# Altium footprint library Реле.PcbLib: 6 footprints
Each footprint in its own frame and in the unit in brackets; x right, y up, seen from the top. Pads: shape width x height; smd on the part's side, far side on the other; paste and mask are expansions set on the pad; w line width, h text height; cw(c..) or ccw(c..) is an arc to the next point about the centre after c.
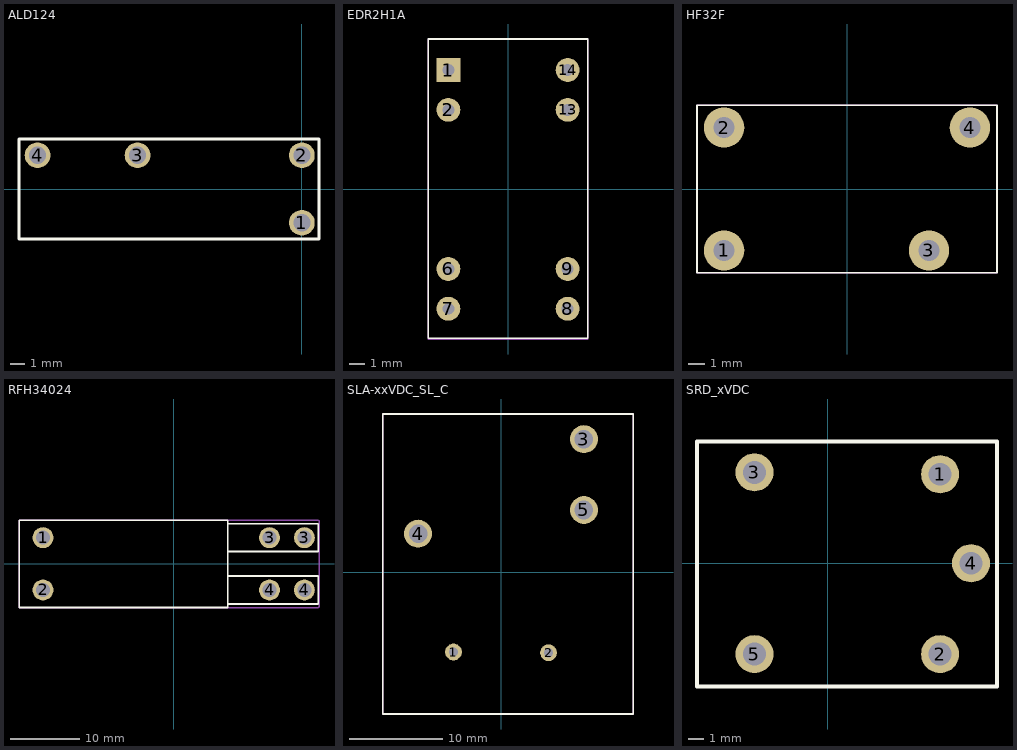
[diagram p0: the footprints below, top view; thin cyan lines are the x and y axes]

## ALD124 [mm]
pads (4):
  round 1.8 hole 1.2: 1(0,-2.36) 2(0,2.36) 3(-11.5,2.36) 4(-18.5,2.36)
Top Overlay:
  lines w0.2: -19.8,-3.5 -19.8,3.5 1.2,3.5 1.2,-3.5 -19.8,-3.5

## EDR2H1A [mil]
pads (8):
  rect 60x60 hole 30: 1(-150,300)
  round 60 hole 30: 2(-150,200) 6(-150,-200) 7(-150,-300) 8(150,-300) 9(150,-200) 13(150,200) 14(150,300)
Top Overlay:
  lines w3.94: -200,-374.02 200,-374.02 200,377.95 -200,377.95 -200,-374.02
TopAssy:
  lines w3.94: -200,-376.01 -200,377.95 200,377.95 200,-376.01 -200,-376.01
  text ".Designator" at -100,-50 h39.37
3D body "ERD2H.STEP": height 177.56, standoff -97.24, extent -157.48,-376.01 157.49,376.01

## HF32F [mm]
pads (4):
  round 2.5 hole 1.3: 1(-7.62,-3.81) 2(-7.62,3.81) 3(5.08,-3.81) 4(7.62,3.81)
Top Overlay:
  lines w0.1: -9.3,-5.2 -9.3,5.2 9.3,5.2 9.3,-5.2 -9.3,-5.2
TopAssy:
  lines w0.1: -9.3,-5.2 9.3,-5.2 9.3,5.2 -9.3,5.2 -9.3,-5.2
  text ".Designator" at -2.9,-0.4 h1.52
3D body "HF32F-G.STEP": height 16, standoff -3, extent -9.197,-5.109 9.203,5.091

## RFH34024 [mm]
pads (6):
  round 3 hole 2: 1(-18.75,3.75) 2(-18.75,-3.75) 3(13.75,3.75) 3(18.75,3.75) 4(13.75,-3.75) 4(18.75,-3.75)
Top Overlay:
  lines w0.254: 7.75,-5.75 20.75,-5.75 20.75,-1.75 7.85,-1.75 ; 7.75,1.75 20.75,1.75 20.75,5.75 7.75,5.75 ; -22.15,-6.25 -22.15,6.25 7.75,6.25 7.75,-6.25 -22.15,-6.25
TopAssy:
  lines w0.2: -22.2,-6.3 20.7,-6.3 20.85,-6.15 20.85,6.15 20.75,6.25 -22.2,6.25 -22.2,-6.3
  text ".Designator" at -9.35,-1.35 h1.52
3D body "Реле-HF115F-Q.stp": height 15.7, standoff -4.3, extent -22.1,-6.4 18.9,6.3

## SLA-xxVDC_SL_C [mm]
pads (5):
  round 1.8 hole 1: 1(-5.1,-8.55) 2(5.1,-8.625)
  round 3 hole 2: 3(8.9,14.3) 4(-8.9,4.15) 5(8.9,6.7)
Top Overlay:
  lines w0.2: -12.7,-15.2 14.2,-15.2 14.2,17 -12.7,17 -12.7,-15.2
TopAssy:
  lines w0.2: -12.7,-15.2 -12.7,17 14.2,17 14.2,-15.2 -12.7,-15.2
  text ".Designator" at -1.7,-3.1 h1.52
3D body "SLA-xxVDC-SL-C.STEP": height 20.4, standoff -3.2, extent -12.575,-15.087 14.125,16.913

## SRD_xVDC [mm]
pads (5):
  round 2.5 hole 1.5: 1(7.366,5.842) 2(7.366,-5.969) 3(-4.826,5.969) 4(9.398,0) 5(-4.826,-5.969)
Top Overlay:
  lines w0.254: -8.6,-8.1 -8.6,8 11.1,8 11.1,-8.1 -8.6,-8.1
TopAssy:
  lines w0.2: -8.6,-8.1 -8.6,8 11.1,8 11.1,-8.1 -8.6,-8.1
  text ".Designator" at -0.4,1.2 h1.52
3D body "SRD.STEP": height 16.6, standoff -3.7, extent -8.307,-7.788 10.793,7.712